# EAGLE library part NC7SBU3157P6X (library Fairchild_By_element14_Batch_1)
SPDT Analog Switch
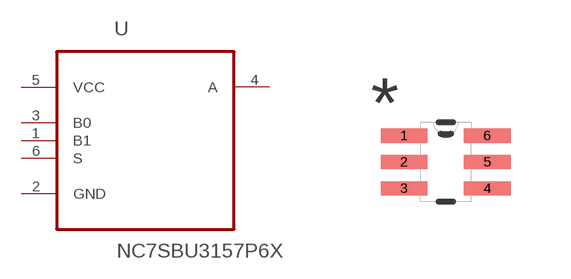
[diagram p345: symbol with the pads of SOT65P210X110-6N; footprint SOT65P210X110-6N]

Designator prefix U

## NC7SBU3157P6X (MPN: NC7SBU3157P6X; OC_FARNELL: 1607853; OC_NEWARK: 82C9968; PACKAGE: SC-70-6; SUPPLIER: Fairchild Semiconductor)  [SOT65P210X110-6N]
1  B1  in
2  GND  pas
3  B0  in
4  A  out
5  VCC  pwr
6  S  in

## Footprint SOT65P210X110-6N (pad centres in mm)
smd 1.168 x 0.356: 1 -1.041,0.66; 2 -1.041,0; 3 -1.041,-0.66; 4 1.041,-0.66; 5 1.041,0; 6 1.041,0.66